# Altium footprint library WE-LQ.PcbLib: 2 footprints
Each footprint in its own frame and in the unit in brackets; x right, y up, seen from the top. Pads: shape width x height; smd on the part's side, far side on the other; paste and mask are expansions set on the pad; w line width, h text height; cw(c..) or ccw(c..) is an arc to the next point about the centre after c.
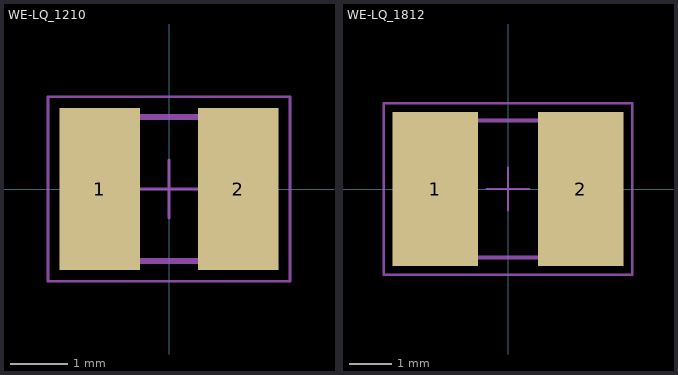
[diagram p0: the footprints below, top view; thin cyan lines are the x and y axes]

## WE-LQ_1210 [mm] "SMT Inductor, body 3.2x2.5mm"
height 2.3
pads (2):
  rect 1.4x2.8 smd: 1(-1.2,0) 2(1.2,0)
Top Designator:
  text ".Designator" at -3.499,-0.233 h0.7
Top Component Outline:
  lines w0.1: -1.6,-1.25 1.6,-1.25 1.6,1.25 -1.6,1.25 -1.6,-1.25
Top 3D Body:
  lines w0.1: -1.6,-1.25 1.6,-1.25 1.6,1.25 -1.6,1.25 -1.6,-1.25
Top Courtyard:
  lines w0.05: -0.5,0 0.5,0 ; 0,-0.5 0,0.5 ; -2.1,-1.6 -2.1,1.6 2.1,1.6 2.1,-1.6 -2.1,-1.6
3D body "7440320018.stp": height 1.99, standoff -0.01, extent -1.6,-1.25 1.6,1.25

## WE-LQ_1812 [mm] "SMT Inductor, body 4.5x3.2mm"
height 2.9
pads (2):
  rect 2x3.6 smd: 1(-1.7,0) 2(1.7,0)
Top Designator:
  text ".Designator" at -4.998,-0.333 h1
Top Component Outline:
  lines w0.1: -2.25,-1.6 -2.25,1.6 2.25,1.6 2.25,-1.6 -2.25,-1.6
Top 3D Body:
  lines w0.1: -2.25,-1.6 -2.25,1.6 2.25,1.6 2.25,-1.6 -2.25,-1.6
Top Courtyard:
  lines w0.05: -0.5,0 0.5,0 ; 0,-0.5 0,0.5 ; -2.9,-2 -2.9,2 2.9,2 2.9,-2 -2.9,-2
3D body "744045001.stp": height 2.59, standoff -0.01, extent -2.25,-1.6 2.25,1.6